# EAGLE library part ER-TFT035-6 (library Opto-electronics > Displays)
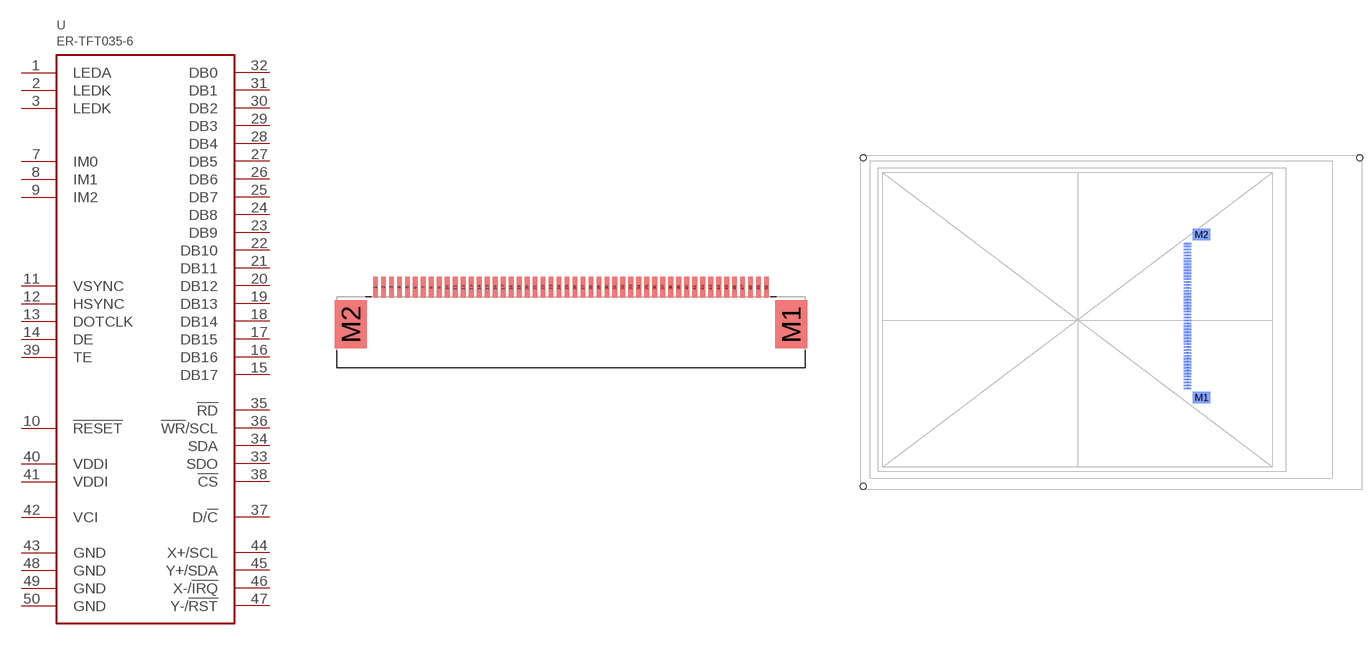
[diagram p1: symbol with the pads of ZIF50; footprints ZIF50, ZIF50-TFT_BACK]

Designator prefix U

## ER-TFT035-6  [ZIF50]
1  LEDA
2  LEDK
3  LEDK
7  IM0
8  IM1
9  IM2
10  !RESET
11  VSYNC
12  HSYNC
13  DOTCLK
14  DE
15  DB17
16  DB16
17  DB15
18  DB14
19  DB13
20  DB12
21  DB11
22  DB10
23  DB9
24  DB8
25  DB7
26  DB6
27  DB5
28  DB4
29  DB3
30  DB2
31  DB1
32  DB0
33  SDO
34  SDA
35  !RD
36  !WR!/SCL
37  D/!C!
38  !CS
39  TE
40  VDDI
41  VDDI
42  VCI
43  GND
44  X+/SCL
45  Y+/SDA
46  X-/!IRQ!
47  Y-/!RST!
48  GND
49  GND
50  GND

## ER-TFT035-6BOT  [ZIF50-TFT_BACK]
Pads as for ZIF50

## ER-TFT035-6TOP  [ZIF50-TFT_TOP]
Pads as for ZIF50

## Footprint ZIF50 (pad centres in mm)
Flexible Printed Circuit & Flexible Flat Cable ZIF Connectors 0.5 mm Pitch, 2.55 mm above the board Source: http://www.hirose.co.jp/cataloge_hp/e58618038.pdf
smd 0.3 x 1.3: 1 -12.25,0.071; 2 -11.75,0.071; 3 -11.25,0.071; 4 -10.75,0.071; 5 -10.25,0.071; 6 -9.75,0.071; 7 -9.25,0.071; 8 -8.75,0.071; 9 -8.25,0.071; 10 -7.75,0.071; 11 -7.25,0.071; 12 -6.75,0.071; 13 -6.25,0.071; 14 -5.75,0.071; 15 -5.25,0.071; 16 -4.75,0.071; 17 -4.25,0.071; 18 -3.75,0.071; 19 -3.25,0.071; 20 -2.75,0.071; 21 -2.25,0.071; 22 -1.75,0.071; 23 -1.25,0.071; 24 -0.75,0.071; 25 -0.25,0.071; 26 0.25,0.071; 27 0.75,0.071; 28 1.25,0.071; 29 1.75,0.071; 30 2.25,0.071; 31 2.75,0.071; 32 3.25,0.071; 33 3.75,0.071; 34 4.25,0.071; 35 4.75,0.071; 36 5.25,0.071; 37 5.75,0.071; 38 6.25,0.071; 39 6.75,0.071; 40 7.25,0.071; 41 7.75,0.071; 42 8.25,0.071; 43 8.75,0.071; 44 9.25,0.071; 45 9.75,0.071; 46 10.25,0.071; 47 10.75,0.071; 48 11.25,0.071; 49 11.75,0.071; 50 12.25,0.071
smd 2 x 3: M1 13.79,-2.254; M2 -13.79,-2.254

## Footprint ZIF50-TFT_BACK (pad centres in mm)
Flexible Printed Circuit & Flexible Flat Cable ZIF Connectors 0.5 mm Pitch, 2.55 mm above the board Source: http://www.hirose.co.jp/cataloge_hp/e58618038.pdf
smd 1.3 x 0.3 bottom: 1 55.369,41.54; 2 55.369,41.04; 3 55.369,40.54; 4 55.369,40.04; 5 55.369,39.54; 6 55.369,39.04; 7 55.369,38.54; 8 55.369,38.04; 9 55.369,37.54; 10 55.369,37.04; 11 55.369,36.54; 12 55.369,36.04; 13 55.369,35.54; 14 55.369,35.04; 15 55.369,34.54; 16 55.369,34.04; 17 55.369,33.54; 18 55.369,33.04; 19 55.369,32.54; 20 55.369,32.04; 21 55.369,31.54; 22 55.369,31.04; 23 55.369,30.54; 24 55.369,30.04; 25 55.369,29.54; 26 55.369,29.04; 27 55.369,28.54; 28 55.369,28.04; 29 55.369,27.54; 30 55.369,27.04; 31 55.369,26.54; 32 55.369,26.04; 33 55.369,25.54; 34 55.369,25.04; 35 55.369,24.54; 36 55.369,24.04; 37 55.369,23.54; 38 55.369,23.04; 39 55.369,22.54; 40 55.369,22.04; 41 55.369,21.54; 42 55.369,21.04; 43 55.369,20.54; 44 55.369,20.04; 45 55.369,19.54; 46 55.369,19.04; 47 55.369,18.54; 48 55.369,18.04; 49 55.369,17.54; 50 55.369,17.04
smd 3 x 2 bottom: M1 57.694,15.5; M2 57.694,43.08
hole 1 at 0.475,56.065
hole 1 at 0.475,0.475
hole 1 at 84.485,56.065

## Footprint ZIF50-TFT_TOP (pad centres in mm)
Flexible Printed Circuit & Flexible Flat Cable ZIF Connectors 0.5 mm Pitch, 2.55 mm above the board Source: http://www.hirose.co.jp/cataloge_hp/e58618038.pdf
smd 1.3 x 0.3: 1 116.597,41.522; 2 116.597,41.022; 3 116.597,40.522; 4 116.597,40.022; 5 116.597,39.522; 6 116.597,39.022; 7 116.597,38.522; 8 116.597,38.022; 9 116.597,37.522; 10 116.597,37.022; 11 116.597,36.522; 12 116.597,36.022; 13 116.597,35.522; 14 116.597,35.022; 15 116.597,34.522; 16 116.597,34.022; 17 116.597,33.522; 18 116.597,33.022; 19 116.597,32.522; 20 116.597,32.022; 21 116.597,31.522; 22 116.597,31.022; 23 116.597,30.522; 24 116.597,30.022; 25 116.597,29.522; 26 116.597,29.022; 27 116.597,28.522; 28 116.597,28.022; 29 116.597,27.522; 30 116.597,27.022; 31 116.597,26.522; 32 116.597,26.022; 33 116.597,25.522; 34 116.597,25.022; 35 116.597,24.522; 36 116.597,24.022; 37 116.597,23.522; 38 116.597,23.022; 39 116.597,22.522; 40 116.597,22.022; 41 116.597,21.522; 42 116.597,21.022; 43 116.597,20.522; 44 116.597,20.022; 45 116.597,19.522; 46 116.597,19.022; 47 116.597,18.522; 48 116.597,18.022; 49 116.597,17.522; 50 116.597,17.022
smd 3 x 2: M1 114.272,15.482; M2 114.272,43.062
hole 1 at 0.475,56.065
hole 1 at 0.475,0.475
hole 1 at 84.485,56.065